# Altium footprint library Ad_Hoc_Parts.PcbLib: 25 footprints (part 2 of 2)
Each footprint in its own frame and in the unit in brackets; x right, y up, seen from the top. Pads: shape width x height; smd on the part's side, far side on the other; paste and mask are expansions set on the pad; w line width, h text height; cw(c..) or ccw(c..) is an arc to the next point about the centre after c.
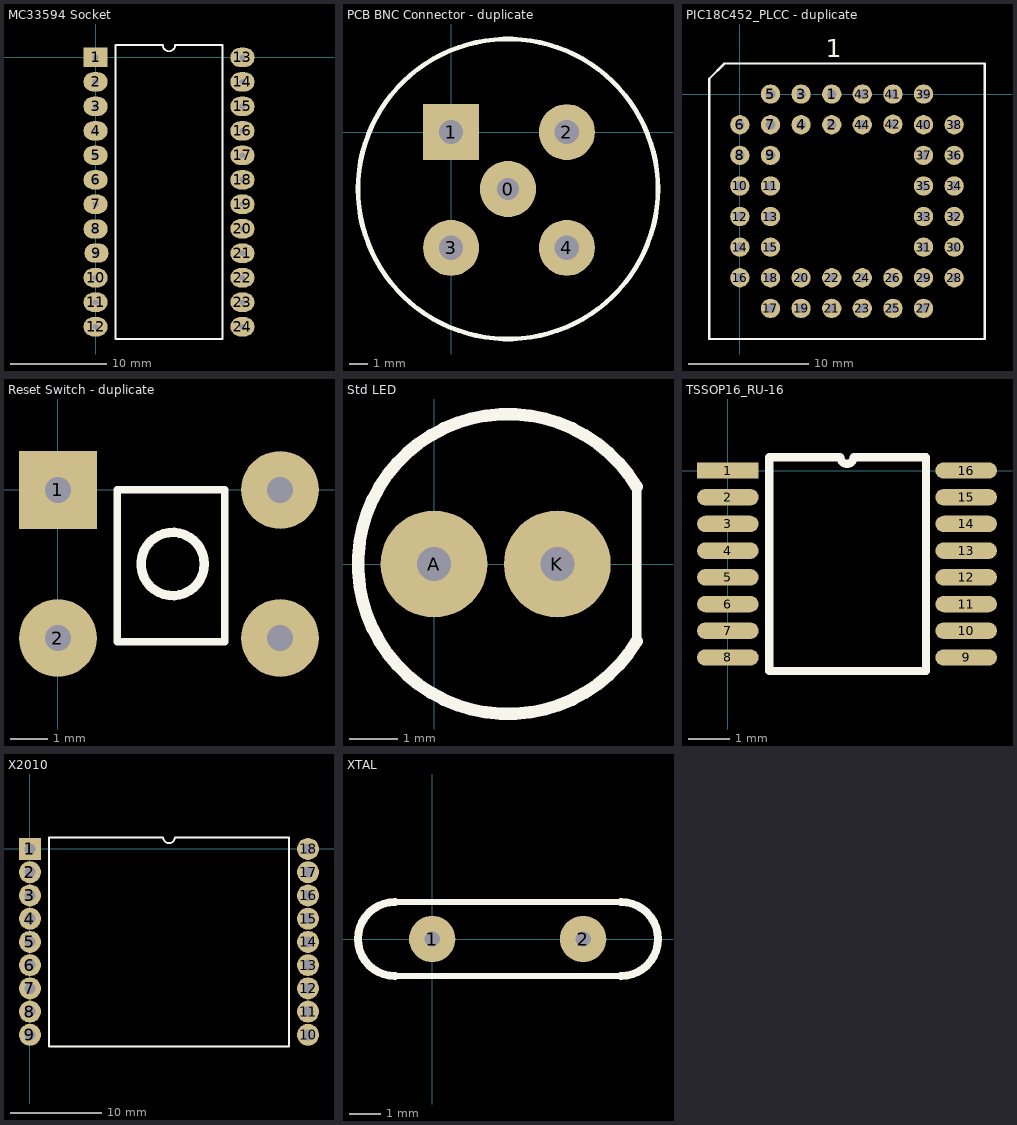
[diagram p1: the footprints below, top view; thin cyan lines are the x and y axes]

## MC33594 Socket [mm]
pads (24):
  rect 2.5x2 hole 0.6: 1(0,0)
  oval 2.5x2 hole 0.6: 2(0,-2.54) 3(0,-5.08) 4(0,-7.62) 5(0,-10.16) 6(0,-12.7) 7(0,-15.24) 8(0,-17.8) 9(0.1,-20.3) 10(0,-22.86) 11(0,-25.4) 12(0,-27.94) 13(15.24,0) 14(15.24,-2.54) 15(15.24,-5.08) 16(15.24,-7.62) 17(15.24,-10.16) 18(15.24,-12.7) 19(15.24,-15.24) 20(15.24,-17.78) 21(15.24,-20.32) 22(15.24,-22.86) 23(15.24,-25.4) 24(15.24,-27.94)
Top Overlay:
  lines w0.2: 2.085,-29.21 2.085,1.27 6.985,1.27 ccw(c7.62,1.27) 8.255,1.27 13.155,1.27 13.155,-29.21 2.085,-29.21

## PCB BNC Connector [mm]

## PCB BNC Connector - duplicate [mm]
pads (5):
  round 3 hole 1.2: 0(3.048,-3.048)
  rect 3x3 hole 1.3: 1(0,0)
  round 3 hole 1.3: 2(6.2,0) 3(0,-6.2) 4(6.2,-6.2)
Top Overlay:
  circle w0.254: c3.048,-3.048 r8.032

## PIC18C452_PLCC - duplicate [mm]
pads (44):
  round 1.6 hole 0.8: 1(7.62,0) 2(7.62,-2.54) 3(5.08,0) 4(5.08,-2.54) 5(2.54,0) 6(0,-2.54) 7(2.54,-2.54) 8(0,-5.08) 9(2.54,-5.08) 10(0,-7.62) 11(2.54,-7.62) 12(0,-10.16) 13(2.54,-10.16) 14(0,-12.7) 15(2.54,-12.7) 16(0,-15.24) 17(2.54,-17.78) 18(2.54,-15.24) 19(5.08,-17.78) 20(5.08,-15.24) 21(7.62,-17.78) 22(7.62,-15.24) 23(10.16,-17.78) 24(10.16,-15.24) 25(12.7,-17.78) 26(12.7,-15.24) 27(15.24,-17.78) 28(17.78,-15.24) 29(15.24,-15.24) 30(17.78,-12.7) 31(15.24,-12.7) 32(17.78,-10.16) 33(15.24,-10.16) 34(17.78,-7.62) 35(15.24,-7.62) 36(17.78,-5.08) 37(15.24,-5.08) 38(17.78,-2.54) 39(15.24,0) 40(15.24,-2.54) 41(12.7,0) 42(12.7,-2.5) 43(10.16,0) 44(10.16,-2.54)
Top Overlay:
  lines w0.2: -2.54,-20.32 -2.54,1.27 -1.27,2.54 20.32,2.54 20.32,-20.32 -2.54,-20.32
  text "1" at 7.112,3.048 h1.52

## Reset Switch - duplicate [mm]
pads (4):
  rect 2.1x2.1 hole 0.7: 1(0,0)
  round 2.1 hole 0.7: 2(0,-4) ""(6,-4) ""(6,0)
Top Overlay:
  circle w0.254: c3.1,-2 r0.854
  lines w0.2: 1.6,-4.1 1.6,0 4.5,0 4.5,-4.1 1.6,-4.1

## Std LED [mm]
pads (2):
  round 2.2 hole 0.7: A(0,0) K(2.54,0)
Top Overlay:
  lines w0.2: 4.174,-1.59 4.174,1.59
  lines w0.254: 4.174,-1.59 cw(c1.524,0) 4.174,1.59

## TSSOP16_RU-16 [mm]
pads (16):
  rect 1.5x0.4 smd: 1(0,0)
  oval 1.5x0.4 smd: 2(0,-0.65) 3(0,-1.3) 4(0,-1.95) 5(0,-2.6) 6(0,-3.25) 7(0,-3.9) 8(0,-4.55) 9(5.8,-4.55) 10(5.8,-3.9) 11(5.8,-3.25) 12(5.8,-2.6) 13(5.8,-1.95) 14(5.8,-1.3) 15(5.8,-0.65) 16(5.8,0)
Top Overlay:
  lines w0.2: 1.01,-4.88 1.01,0.32 2.738,0.325 ccw(c2.9,0.325) 3.062,0.325 4.82,0.32 4.82,-4.88 1.01,-4.88

## X2010 [mm]
pads (18):
  rect 2.4x2.4 hole 1.2: 1(0,0)
  round 2.4 hole 1.2: 2(0,-2.54) 3(0,-5.08) 4(0,-7.62) 5(0,-10.16) 6(0,-12.7) 7(0,-15.24) 8(0,-17.78) 9(0,-20.32) 10(30.4,-20.32) 11(30.4,-17.78) 12(30.4,-15.24) 13(30.4,-12.7) 14(30.4,-10.16) 15(30.4,-7.62) 16(30.4,-5.08) 17(30.4,-2.54) 18(30.4,0)
Top Overlay:
  lines w0.2: 2.085,-21.59 2.085,1.27 14.565,1.27 ccw(c15.2,1.27) 15.835,1.27 28.315,1.27 28.315,-21.59 2.085,-21.59

## XTAL [mm]
pads (2):
  round 1.5 hole 0.5: 1(0,0) 2(4.88,0)
Top Overlay:
  lines w0.2: -1.2,-1.2 6.1,-1.2 ; -1.2,1.2 6.1,1.2
  lines w0.254: -1.2,-1.2 cw(c-1.2,0) -1.2,1.2 ; 6.1,-1.2 ccw(c6.1,0) 6.1,1.2